# EAGLE library part LPRP (library 22Ｐ　ロープロ)
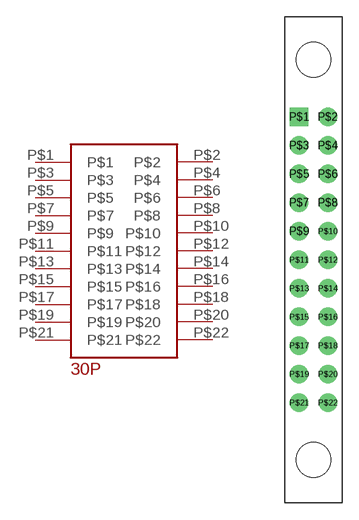
[diagram p0: symbol with the pads of LPRO; footprint LPRO]

Designator prefix -

## LPRP  [LPRO]
P$1  P$1
P$2  P$2
P$3  P$3
P$4  P$4
P$5  P$5
P$6  P$6
P$7  P$7
P$8  P$8
P$9  P$9
P$10  P$10
P$11  P$11
P$12  P$12
P$13  P$13
P$14  P$14
P$15  P$15
P$16  P$16
P$17  P$17
P$18  P$18
P$19  P$19
P$20  P$20
P$21  P$21
P$22  P$22

## Footprint LPRO (pad centres in mm)
drill 1.1 square: P$1 0,29.21
drill 1.1: P$2 2.54,29.21; P$3 0,26.67; P$4 2.54,26.67; P$5 0,24.13; P$6 2.54,24.13; P$7 0,21.59; P$8 2.54,21.59; P$9 0,19.05; P$10 2.54,19.05; P$11 0,16.51; P$12 2.54,16.51; P$13 0,13.97; P$14 2.54,13.97; P$15 0,11.43; P$16 2.54,11.43; P$17 0,8.89; P$18 2.54,8.89; P$19 0,6.35; P$20 2.54,6.35; P$21 0,3.81; P$22 2.54,3.81
hole 3.1 at 1.27,-1.27
hole 3.1 at 1.27,34.29